# EAGLE library part ADUM1201 (library ADuM)
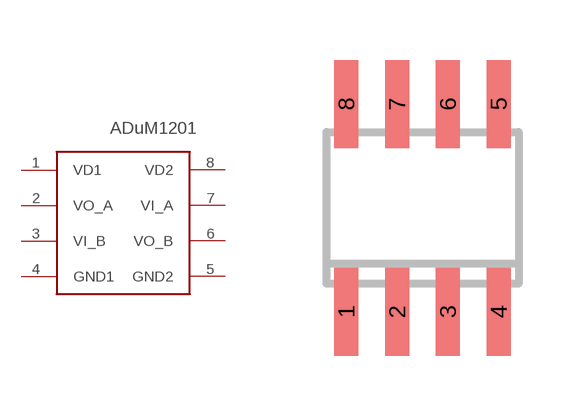
[diagram p0: symbol with the pads of SO08; footprint SO08]

Designator prefix IC

## ADUM1201  [SO08]
1  VD1
2  VO_A
3  VI_B
4  GND1
5  GND2
6  VO_B
7  VI_A
8  VD2

## Footprint SO08 (pad centres in mm)
Small Outline Package 8 NS Package M08A
smd 0.6 x 2.2: 1 -1.905,-2.6; 2 -0.635,-2.6; 3 0.635,-2.6; 4 1.905,-2.6; 5 1.905,2.6; 6 0.635,2.6; 7 -0.635,2.6; 8 -1.905,2.6